# Altium schematic symbol library YamagotchiLib.SCHLIB: 16 symbols
Pins are listed as number, name and electrical type; pins without a type are passive.

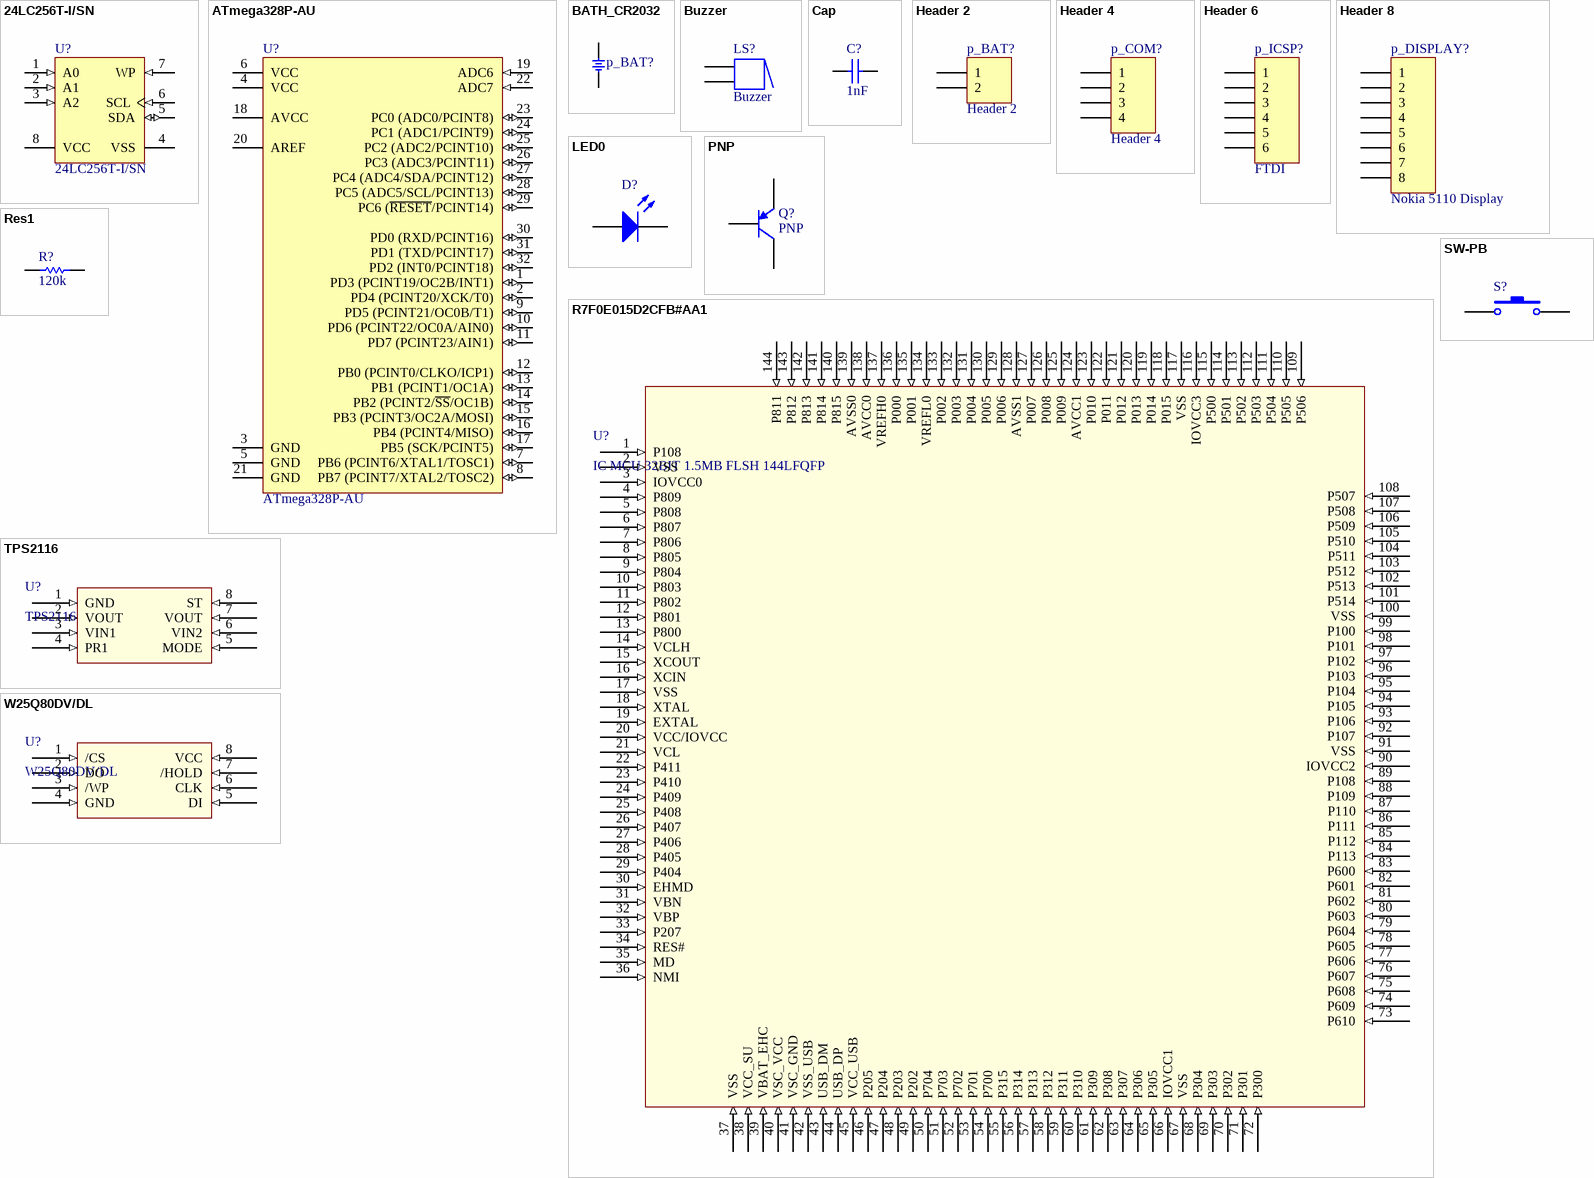
[diagram p0: symbols 24LC256T-I/SN to W25Q80DV/DL]

## 24LC256T-I/SN
designator U?
256Kbit, 400kHz, 2.5V, I2C Serial EEPROM, 8-Pin SOIC 150mil, Industrial Temperature, Tape and Reel; Published: 29-Jan-2009; DatasheetVersion: revP, Oct-2007; PackageVersion: revBB, Aug-2009; PackageReference: SOIC-SN8; Publisher: Altium Limited; PackageDescription: 8-Lead Plastic Small Outline (SN) - Narrow, 3.90mm Body [SOIC]; Supplier 1: Digi-Key; Supplier Part Number 1: 24LC256T-I/SNTR-ND; Supplier 2: Digi-Key; Supplier Part Number 2: 24LC256T-I/SNCT-ND; Supplier 3: Digi-Key; Supplier Part Number 3: 24LC256T-I/SNDKR-ND; Supplier 4: Farnell; Supplier Part Number 4: 1296581; Code_JEDEC: MS-012; Code_IPC: SOIC127P600-8; ComponentLink1Description: Datasheet; ComponentLink1URL: http://ww1.microchip.com/downloads/en/DeviceDoc/21203P.pdf; ComponentLink2Description: Packaging Specification; ComponentLink2URL: http://www.microchip.com/stellent/groups/techpub_sg/documents/packagingspec/en012702.pdf; ComponentLink3Description: Microchip.com Home; ComponentLink3URL: http://www.microchip.com/
footprint SOIC-SN8_N (SOIC, 8-Leads, Body 4.9x3.8mm, Pitch 1.27mm, IPC Medium Density)
footprint SOIC-SN8_L (SOIC, 8-Leads, Body 4.9x3.8mm, Pitch 1.27mm, IPC High Density)
footprint SOIC-SN8_M (SOIC, 8-Leads, Body 4.9x3.8mm, Pitch 1.27mm, IPC Low Density)
pins: 1 A0 (in), 2 A1 (in), 3 A2 (in), 4 VSS (power), 5 SDA (io), 6 SCL (in), 7 WP (in), 8 VCC (power)

## ATmega328P-AU
designator U?
8-bit AVR Microcontroller, 32KB Flash, 1KB EEPROM, 2KB SRAM, 32-pin TQFP, Industrial Grade (-40°C to 85°C); Published: 1-Apr-2010; DatasheetVersion: revA, Jan-2010; PackageVersion: revB, Oct-2001; PackageReference: 32A; Publisher: Altium Limited; PackageDescription: 32-Lead, 7x7x1.0 mm Body, 0.8mm Lead Pitch, Thin Profile Plastic Quad Flat Package (TQFP); Supplier 1: Digi-Key; Supplier Part Number 1: ATMEGA328P-AU-ND; Supplier 2: Farnell; Supplier Part Number 2: 1715486; Supplier 3: Mouser; Supplier Part Number 3: 556-ATMEGA328P-AU; Code_JEDEC: MS-026-ABA; ComponentLink1Description: Manufacturer Link; ComponentLink1URL: http://www.atmel.com/products/avr/default.asp?; ComponentLink2Description: ATmega48A/48PA/88A/88PA/168A/168PA/328/328P Datasheet; ComponentLink2URL: http://www.atmel.com/dyn/resources/prod_documents/8271.pdf; ComponentLink3Description: ATmega48A/48PA/88A/88PA/168A/168PA/328/328P Summary; ComponentLink3URL: http://www.atmel.com/dyn/resources/prod_documents/8271S.pdf; ComponentLink4Description: Atmel.com Home; ComponentLink4URL: http://www.atmel.com
footprint 32A_N (Thin QFP, 32-Leads, Body 7x7mm, Pitch 0.8mm, IPC Medium Density)
footprint 32A_L (Thin QFP, 32-Leads, Body 7x7mm, Pitch 0.8mm, IPC High Density)
footprint 32A_M (Thin QFP, 32-Leads, Body 7x7mm, Pitch 0.8mm, IPC Low Density)
pins: 1 PD3 (PCINT19/OC2B/INT1) (io), 2 PD4 (PCINT20/XCK/T0) (io), 3 GND (power), 4 VCC (power), 5 GND (power), 6 VCC (power), 7 PB6 (PCINT6/XTAL1/TOSC1) (io), 8 PB7 (PCINT7/XTAL2/TOSC2) (io), 9 PD5 (PCINT21/OC0B/T1) (io), 10 PD6 (PCINT22/OC0A/AIN0) (io), 11 PD7 (PCINT23/AIN1) (io), 12 PB0 (PCINT0/CLKO/ICP1) (io), 13 PB1 (PCINT1/OC1A) (io), 14 PB2 (PCINT2/~{SS}/OC1B) (io), 15 PB3 (PCINT3/OC2A/MOSI) (io), 16 PB4 (PCINT4/MISO) (io), 17 PB5 (SCK/PCINT5) (io), 18 AVCC (power), 19 ADC6 (in), 20 AREF, 21 GND (power), 22 ADC7 (in), 23 PC0 (ADC0/PCINT8) (io), 24 PC1 (ADC1/PCINT9) (io), 25 PC2 (ADC2/PCINT10) (io), 26 PC3 (ADC3/PCINT11) (io), 27 PC4 (ADC4/SDA/PCINT12) (io), 28 PC5 (ADC5/SCL/PCINT13) (io), 29 PC6 (~{RESET}/PCINT14) (io), 30 PD0 (RXD/PCINT16) (io), 31 PD1 (TXD/PCINT17) (io), 32 PD2 (INT0/PCINT18) (io)

## BATH_CR2032
designator p_BAT?
BATTERY HOLDER, CR2032; MANF_P#: -; .: http://www.chila.ir
footprint BTH2032 (CR2032 BATTERY HOLDER)
pins: 1, 2

## Buzzer
designator LS?
Magnetic Transducer Buzzer; Published: 24-Mar-1999; LatestRevisionDate: 17-Dec-2003; LatestRevisionNote: Schematic revised, PCB Footprint replaced.; DatasheetVersion: 17-Dec-2003; PackageReference: ABSM-1574; Publisher: Altium Limited; PackageDescription: Magnetic Transducer Buzzer; ComponentLink1Description: Manufacturer Link; ComponentLink1URL: http://www.megastar.com/linecard/buzzmode/index.php
footprint HDR1X2 (Connector; Header; 2 Position)
pins: 1, 1A, 2, 2A
1 alternate drawing of the same symbol

## Cap
designator C?  value 1nF  (hidden comment: Cap)
Capacitor; Published: 8-Jun-2000; LatestRevisionDate: 17-Jul-2002; LatestRevisionNote: Re-released for DXP Platform.; PackageReference: RAD-0.3; Publisher: Altium Limited; PackageDescription: Radial Cap, Thru-Hole; 2 Leads; 0.3 in Pin Spacing
footprint C0805 (Chip Capacitor, Body 2.0x1.3mm, IPC High Density)
simulation model CAP (Capacitor)
signal-integrity model Cap
pins: 1, 2

## Header 2
designator p_BAT?
Header, 2-Pin; LatestRevisionDate: 17-Jul-2002; LatestRevisionNote: Re-released for DXP Platform.; Publisher: Altium Limited
footprint HDR1X2 (Connector; Header; 2 Position)
signal-integrity model Connector
pins: 1, 2

## Header 4
designator p_COM?
Header, 4-Pin; LatestRevisionDate: 17-Jul-2002; LatestRevisionNote: Re-released for DXP Platform.; Publisher: Altium Limited
footprint HDR1X4 (Connector; Header; 4 Position)
signal-integrity model Connector
pins: 1, 2, 3, 4

## Header 6
designator p_ICSP?, comment FTDI
Header, 6-Pin; LatestRevisionDate: 17-Jul-2002; LatestRevisionNote: Re-released for DXP Platform.; Publisher: Altium Limited
footprint HDR2X3 (Connector; Header; 3x2 Position)
signal-integrity model Connector
pins: 1, 2, 3, 4, 5, 6

## Header 8
designator p_DISPLAY?, comment Nokia 5110 Display
Header, 8-Pin; LatestRevisionDate: 17-Jul-2002; LatestRevisionNote: Re-released for DXP Platform.; Publisher: Altium Limited
footprint HDR1X8 (Connector; Header; 8 Position)
signal-integrity model Connector
pins: 1, 2, 3, 4, 5, 6, 7, 8

## LED0
designator D?  (value not drawn)
Typical INFRARED GaAs LED; Published: 8-Jun-2000; LatestRevisionDate: 08-Jul-2005; LatestRevisionNote: Mech Layer 1 removed.; PackageReference: LED-0; Publisher: Altium Limited; PackageDescription: LED; 2 Leads
footprint LED-0 (LED; 2 Leads)
simulation model LED0 (Diode)
footprint 6-0805_M (Chip Resistor, Body 2.0x1.2mm, IPC Low Density)
pins: 1 A, 2 K

## PNP
designator Q?
PNP Bipolar Transistor; Published: 8-Jun-2000; LatestRevisionDate: 29-May-2009; LatestRevisionNote: IPC-7351 Footprint Added.; PackageVersion: Aug-1999; PackageReference: SOT-23B; Publisher: Altium Limited; PackageDescription: 3-Pin SOT-23 Package 0.95 mm Pitch, 2.4 mm Lead Span
footprint SOT-23B_N (SOT23, 3-Leads, Body 2.9x1.3mm, Pitch 0.95mm, Lead Span 2.4mm, IPC Medium Density)
footprint SOT-23B_L (SOT23, 3-Leads, Body 2.9x1.3mm, Pitch 0.95mm, Lead Span 2.4mm, IPC High Density)
footprint SOT-23B_M (SOT23, 3-Leads, Body 2.9x1.3mm, Pitch 0.95mm, Lead Span 2.4mm, IPC Low Density)
simulation model PNP
signal-integrity model PNP
pins: 1 C, 2 B, 3 E

## R7F0E015D2CFB#AA1
designator U?, comment IC MCU 32BIT 1.5MB FLSH 144LFQFP
ARM® Cortex®-M0+ series Microcontroller IC 32-Bit 24MHz 1.5MB (1.5M x 8) FLASH 144-LFQFP (20x20)
pins: 1 P108 (in), 2 VSS (in), 3 IOVCC0 (in), 4 P809 (in), 5 P808 (in), 6 P807 (in), 7 P806 (in), 8 P805 (in), 9 P804 (in), 10 P803 (in), 11 P802 (in), 12 P801 (in), 13 P800 (in), 14 VCLH (in), 15 XCOUT (in), 16 XCIN (in), 17 VSS (in), 18 XTAL (in), 19 EXTAL (in), 20 VCC/IOVCC (in), 21 VCL (in), 22 P411 (in), 23 P410 (in), 24 P409 (in), 25 P408 (in), 26 P407 (in), 27 P406 (in), 28 P405 (in), 29 P404 (in), 30 EHMD (in), 31 VBN (in), 32 VBP (in), 33 P207 (in), 34 RES# (in), 35 MD (in), 36 NMI (in), 37 VSS (in), 38 VCC_SU (in), 39 VBAT_EHC (in), 40 VSC_VCC (in), 41 VSC_GND (in), 42 VSS_USB (in), 43 USB_DM (in), 44 USB_DP (in), 45 VCC_USB (in), 46 P205 (in), 47 P204 (in), 48 P203 (in), 49 P202 (in), 50 P704 (in), 51 P703 (in), 52 P702 (in), 53 P701 (in), 54 P700 (in), 55 P315 (in), 56 P314 (in), 57 P313 (in), 58 P312 (in), 59 P311 (in), 60 P310 (in), 61 P309 (in), 62 P308 (in), 63 P307 (in), 64 P306 (in), 65 P305 (in), 66 IOVCC1 (in), 67 VSS (in), 68 P304 (in), 69 P303 (in), 70 P302 (in), 71 P301 (in), 72 P300 (in), 73 P610 (in), 74 P609 (in), 75 P608 (in), 76 P607 (in), 77 P606 (in), 78 P605 (in), 79 P604 (in), 80 P603 (in), 81 P602 (in), 82 P601 (in), 83 P600 (in), 84 P113 (in), 85 P112 (in), 86 P111 (in), 87 P110 (in), 88 P109 (in), 89 P108 (in), 90 IOVCC2 (in), 91 VSS (in), 92 P107 (in), 93 P106 (in), 94 P105 (in), 95 P104 (in), 96 P103 (in), 97 P102 (in), 98 P101 (in), 99 P100 (in), 100 VSS (in), 101 P514 (in), 102 P513 (in), 103 P512 (in), 104 P511 (in), 105 P510 (in), 106 P509 (in), 107 P508 (in), 108 P507 (in), 109 P506 (in), 110 P505 (in), 111 P504 (in), 112 P503 (in), 113 P502 (in), 114 P501 (in), 115 P500 (in), 116 IOVCC3 (in), 117 VSS (in), 118 P015 (in), 119 P014 (in), 120 P013 (in), 121 P012 (in), 122 P011 (in), 123 P010 (in), 124 AVCC1 (in), 125 P009 (in), 126 P008 (in), 127 P007 (in), 128 AVSS1 (in), 129 P006 (in), 130 P005 (in), 131 P004 (in), 132 P003 (in), 133 P002 (in), 134 VREFL0 (in), 135 P001 (in), 136 P000 (in), 137 VREFH0 (in), 138 AVCC0 (in), 139 AVSS0 (in), 140 P815 (in), 141 P814 (in), 142 P813 (in), 143 P812 (in), 144 P811 (in)

## Res1
designator R?  value 120k  (hidden comment: Res1)
Resistor; Published: 8-Jun-2000; LatestRevisionDate: 17-Jul-2002; LatestRevisionNote: Re-released for DXP Platform.; PackageReference: AXIAL-0.3; Publisher: Altium Limited; PackageDescription: Axial Device, Thru-Hole; 2 Leads; 0.3 in Pin Spacing
footprint 6-0805_M (Chip Resistor, Body 2.0x1.2mm, IPC Low Density)
simulation model RESISTOR (Resistor)
signal-integrity model Res
pins: 1, 2

## SW-PB
designator S?  (value not drawn)
Switch; Published: 24-Mar-1999; LatestRevisionDate: 17-Jul-2002; LatestRevisionNote: Re-released for DXP Platform.; PackageReference: SPST-2; Publisher: Altium Limited; PackageDescription: Switch; 2 Leads
footprint SPST-2 (Switch; 2 Leads)
pins: 1, 2

## TPS2116
designator U?
TPS2116 1.6 V to 5.5 V, 2.5-A Low IQ Power Mux with Manual and Priority Switchover
pins: 1 GND (in), 2 VOUT (in), 3 VIN1 (in), 4 PR1 (in), 5 MODE (in), 6 VIN2 (in), 7 VOUT (in), 8 ST (in)

## W25Q80DV/DL
designator U?
2.5V AND 3V 8M-BIT  SERIAL FLASH MEMORY WITH  DUAL AND QUAD SPI
pins: 1 /CS (in), 2 DO (in), 3 /WP (in), 4 GND (in), 5 DI (in), 6 CLK (in), 7 /HOLD (in), 8 VCC (in)